# Altium schematic symbol library Relay_Mux.SchLib: 17 symbols
Pins are listed as number, name and electrical type; pins without a type are passive.

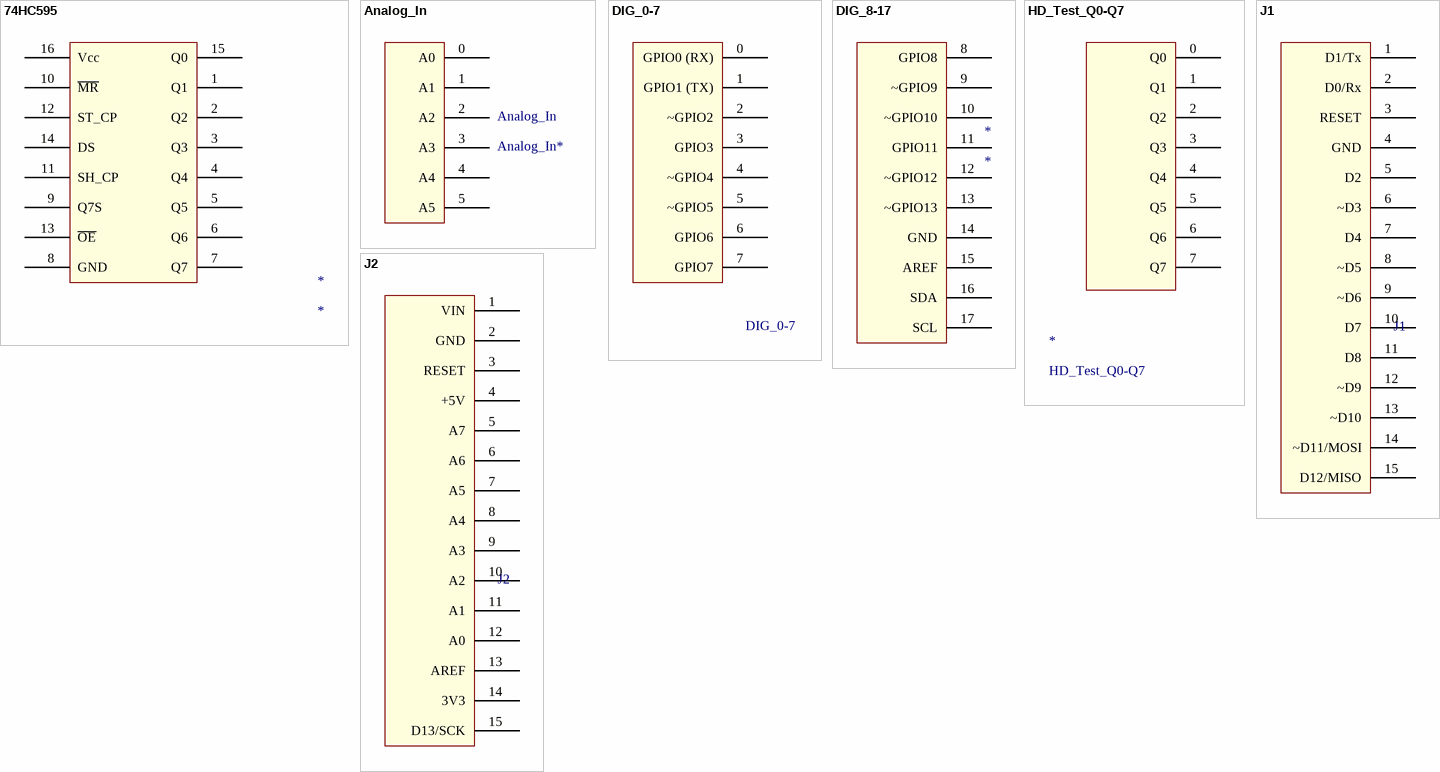
[diagram p0: symbols 74HC595 to J2]

## 74HC595
designator *
footprint 16Pin_SOIC127P1030X265-16N (SOIC, 16-Leads, Body 10.30x7.50mm, Pitch 1.27mm, IPC Medium Density)
pins: 1 Q1, 2 Q2, 3 Q3, 4 Q4, 5 Q5, 6 Q6, 7 Q7, 8 GND, 9 Q7S, 10 ~{MR}, 11 SH_CP, 12 ST_CP, 13 ~{OE}, 14 DS, 15 Q0, 16 Vcc

## Analog_In
designator Analog_In, comment Analog_In*
footprint Analog_In
pins: 0 A0, 1 A1, 2 A2, 3 A3, 4 A4, 5 A5

## DIG_0-7
designator DIG_0-7  (value not drawn)
footprint DIG_0-7
pins: 0 GPIO0 (RX), 1 GPIO1 (TX), 2 ~GPIO2, 3 GPIO3, 4 ~GPIO4, 5 ~GPIO5, 6 GPIO6, 7 GPIO7

## DIG_8-17
designator *
footprint DIG_8-17
pins: 8 GPIO8, 9 ~GPIO9, 10 ~GPIO10, 11 GPIO11, 12 ~GPIO12, 13 ~GPIO13, 14 GND, 15 AREF, 16 SDA, 17 SCL

## HD_Test_Q0-Q7
designator *
footprint HD_Test_Q0-Q7
pins: 0 Q0, 1 Q1, 2 Q2, 3 Q3, 4 Q4, 5 Q5, 6 Q6, 7 Q7

## J1
designator J1, comment J1_Nano  (value not drawn)
J1 on Arduino Nano
footprint J1, J2 - Arduino Nano
pins: 1 D1/Tx, 2 D0/Rx, 3 RESET, 4 GND, 5 D2, 6 ~D3, 7 D4, 8 ~D5, 9 ~D6, 10 D7, 11 D8, 12 ~D9, 13 ~D10, 14 ~D11/MOSI, 15 D12/MISO

## J2
designator J2, comment J2_Nano  (value not drawn)
J2 on Arduino Nano
footprint J1, J2 - Arduino Nano
pins: 1 VIN, 2 GND, 3 RESET, 4 +5V, 5 A7, 6 A6, 7 A5, 8 A4, 9 A3, 10 A2, 11 A1, 12 A0, 13 AREF, 14 3V3, 15 D13/SCK

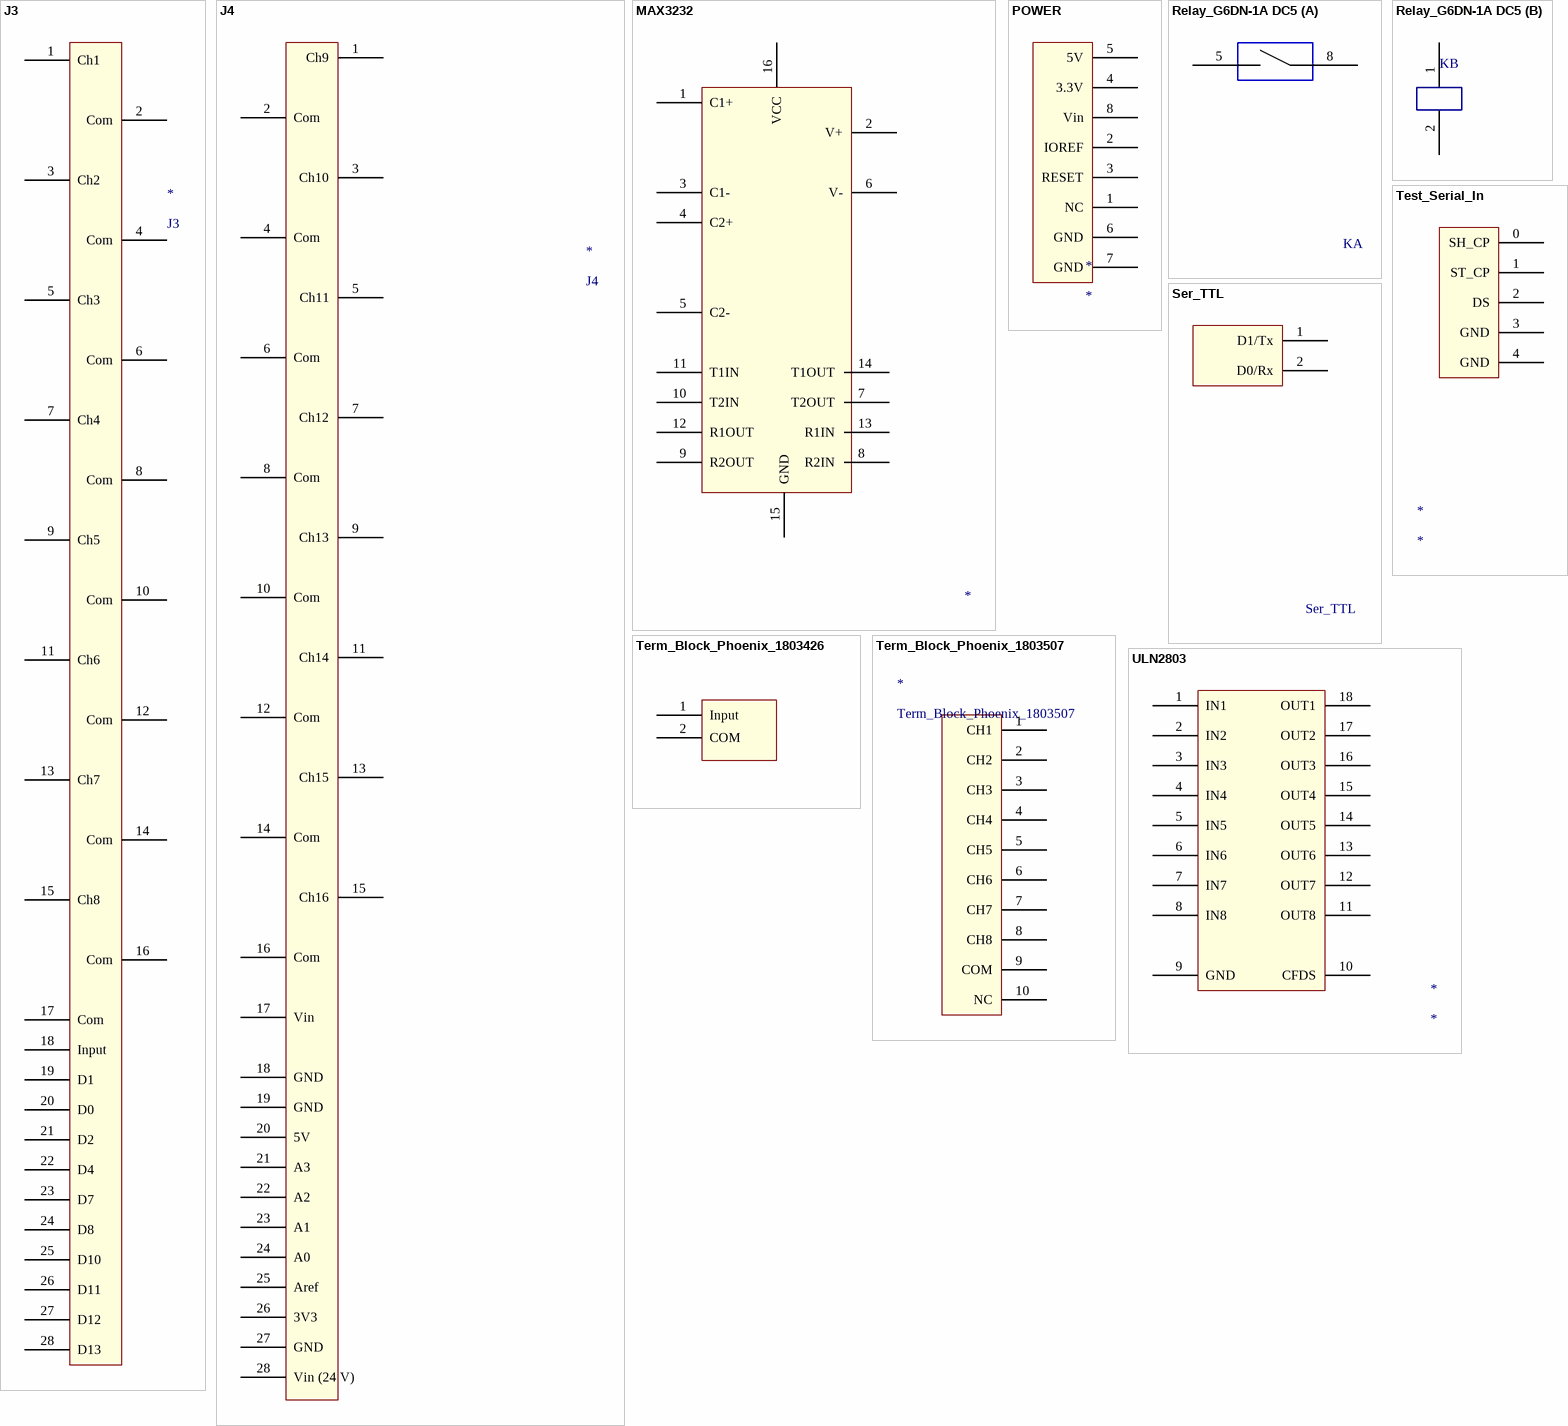
[diagram p1: symbols J3 to ULN2803]

## J3
designator *
footprint Term_Block_Amphenol_20020327 (20 pos, 3.81 mm pitch, screw term)
pins: 1 Ch1, 2 Com, 3 Ch2, 4 Com, 5 Ch3, 6 Com, 7 Ch4, 8 Com, 9 Ch5, 10 Com, 11 Ch6, 12 Com, 13 Ch7, 14 Com, 15 Ch8, 16 Com, 17 Com, 18 Input, 19 D1, 20 D0, 21 D2, 22 D4, 23 D7, 24 D8, 25 D10, 26 D11, 27 D12, 28 D13

## J4
designator *
footprint Term_Block_Amphenol_20020327 (20 pos, 3.81 mm pitch, screw term)
pins: 1 Ch9, 2 Com, 3 Ch10, 4 Com, 5 Ch11, 6 Com, 7 Ch12, 8 Com, 9 Ch13, 10 Com, 11 Ch14, 12 Com, 13 Ch15, 14 Com, 15 Ch16, 16 Com, 17 Vin, 18 GND, 19 GND, 20 5V, 21 A3, 22 A2, 23 A1, 24 A0, 25 Aref, 26 3V3, 27 GND, 28 Vin (24 V)

## MAX3232
designator *  (value not drawn)
footprint Model Name (Footprint not found)
footprint 16 pin SOIC - MAX3232 - SOIC127P600X175-16N (SOIC, 16-Leads, Body 9.89x3.91mm, Pitch 1.27mm, IPC Medium Density)
pins: 1 C1+, 2 V+, 3 C1-, 4 C2+, 5 C2-, 6 V-, 7 T2OUT, 8 R2IN, 9 R2OUT, 10 T2IN, 11 T1IN, 12 R1OUT, 13 R1IN, 14 T1OUT, 15 GND, 16 VCC

## POWER
designator *
footprint POWER
pins: 1 NC, 2 IOREF, 3 RESET, 4 3.3V, 5 5V, 6 GND, 7 GND, 8 Vin

## Relay_G6DN-1A DC5
designator K, comment K*  (value not drawn)
Relay, SPST, 5V
footprint Relay_G6DN-1A DC5
part A pins: 5, 8
part B pins: 1, 2

## Ser_TTL
designator Ser_TTL  (value not drawn)
footprint Ser_TTL
pins: 1 D1/Tx, 2 D0/Rx

## Term_Block_Phoenix_1803426
designator *
footprint TERM_BLOCK_PHOENIX_1803426
pins: 1 Input, 2 COM

## Term_Block_Phoenix_1803507
designator *
footprint Term_Block_Phoenix_1803507 (10 pos, 3.81 mm pitch, vertical, header, pluggable)
pins: 1 CH1, 2 CH2, 3 CH3, 4 CH4, 5 CH5, 6 CH6, 7 CH7, 8 CH8, 9 COM, 10 NC

## Test_Serial_In
designator *
footprint Test_Serial_In
pins: 0 SH_CP, 1 ST_CP, 2 DS, 3 GND, 4 GND

## ULN2803
designator *
footprint 18Pin_SOIC127P1030X265-18N (SOIC, 18-Leads, Body 11.55x7.50mm, Pitch 1.27mm, IPC Medium Density)
pins: 1 IN1, 2 IN2, 3 IN3, 4 IN4, 5 IN5, 6 IN6, 7 IN7, 8 IN8, 9 GND, 10 CFDS, 11 OUT8, 12 OUT7, 13 OUT6, 14 OUT5, 15 OUT4, 16 OUT3, 17 OUT2, 18 OUT1